# Altium schematic symbol library L78L05ABUTR.SchLib: 1 symbol
Pins are listed as number, name and electrical type; pins without a type are passive.

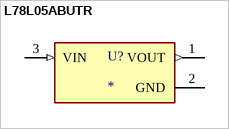
[diagram p0: symbol L78L05ABUTR]

## L78L05ABUTR
designator U?
Linear Voltage Regulator IC Positive Fixed 1 Output 100mA SOT-89-3; MF: STMicroelectronics; MP: L78L05ABUTR; SnapEDA_Link: https://www.snapeda.com/parts/L78L05ABUTR/STMicroelectronics/view-part/?ref=snap; Package: SOT-89-3 STMicroelectronics; Value: *; Check_prices: https://www.snapeda.com/parts/L78L05ABUTR/STMicroelectronics/view-part/?ref=eda
footprint VREG_L78L05ABUTR
pins: 1 VOUT (out), 2 GND (power), 3 VIN (in)